# EAGLE library part PTR5528 (library lio)
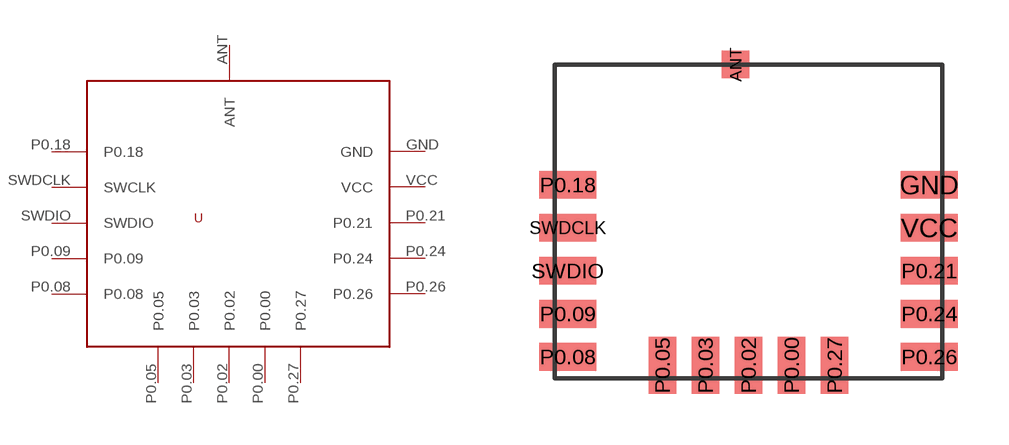
[diagram p7: symbol with the pads of PTR5528; footprint PTR5528]

Designator prefix -

## PTR5528  [PTR5528]
ANT  ANT
GND  GND  pwr
P0.00  P0.00
P0.02  P0.02
P0.03  P0.03
P0.05  P0.05
P0.08  P0.08
P0.09  P0.09
P0.18  P0.18
P0.21  P0.21
P0.24  P0.24
P0.26  P0.26
P0.27  P0.27
SWDCLK  SWCLK
SWDIO  SWDIO
VCC  VCC  pwr

## Footprint PTR5528 (pad centres in mm)
smd 0.813 x 0.813: ANT -0.381,4.572
smd 1.676 x 0.813: GND 5.334,1.016; P0.08 -5.334,-4.064; P0.09 -5.334,-2.794; P0.18 -5.334,1.016; P0.21 5.334,-1.524; P0.24 5.334,-2.794; P0.26 5.334,-4.064; SWDCLK -5.334,-0.254; SWDIO -5.334,-1.524; VCC 5.334,-0.254
smd 0.813 x 1.676: P0.00 1.27,-4.318; P0.02 0,-4.318; P0.03 -1.27,-4.318; P0.05 -2.54,-4.318; P0.27 2.54,-4.318